# EAGLE library part 70555-0008 (library simpa)
Molex SL-RT Angle Header W/LATCH & TRI-PEGGS 2.54mm Pitch
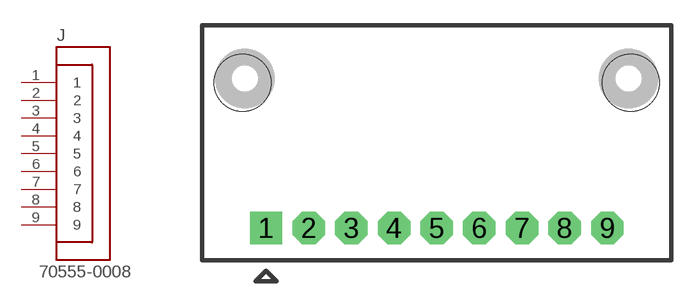
[diagram p3: symbol with the pads of 70555-0008; footprint 70555-0008]

Designator prefix J

## 70555-0008  [70555-0008]
1  1  pas
2  2  pas
3  3  pas
4  4  pas
5  5  pas
6  6  pas
7  7  pas
8  8  pas
9  9  pas

## Footprint 70555-0008 (pad centres in mm)
Molex SL-RT Angle Header W/LATCH & TRI-PEGGS 2.54mm Pitch
drill 1.1 pad 1.93 square: 1 0,0
drill 1.1 pad 1.93 octagon: 2 2.54,0; 3 5.08,0; 4 7.62,0; 5 10.16,0; 6 12.7,0; 7 15.24,0; 8 17.78,0; 9 20.32,0
hole 3.404 at -1.397,8.636
hole 3.404 at 21.717,8.636